# Altium integrated library LTC2850CS8PBF.IntLib: 1 symbol
Pins are listed as number, name and electrical type; pins without a type are passive.

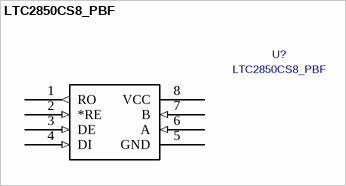
[diagram p0: symbol LTC2850CS8_PBF]

## LTC2850CS8_PBF
designator U?
Manufacturer_Part_Number: LTC2850CS8#PBF; C: Copyright (C) 2016 Accelerated Designs. All rights reserved; Vendor: Linear Technology; Built_By: EMA_UL_Team; Value: LTC2850CS8_PBF
footprint SO-8_S
pins: 1 RO (out), 2 *RE (in), 3 DE (in), 4 DI (in), 5 GND (power), 6 A (in), 7 B (in), 8 VCC (power)